# Altium footprint library sample.PcbLib: 13 footprints
Each footprint in its own frame and in the unit in brackets; x right, y up, seen from the top. Pads: shape width x height; smd on the part's side, far side on the other; paste and mask are expansions set on the pad; w line width, h text height; cw(c..) or ccw(c..) is an arc to the next point about the centre after c.
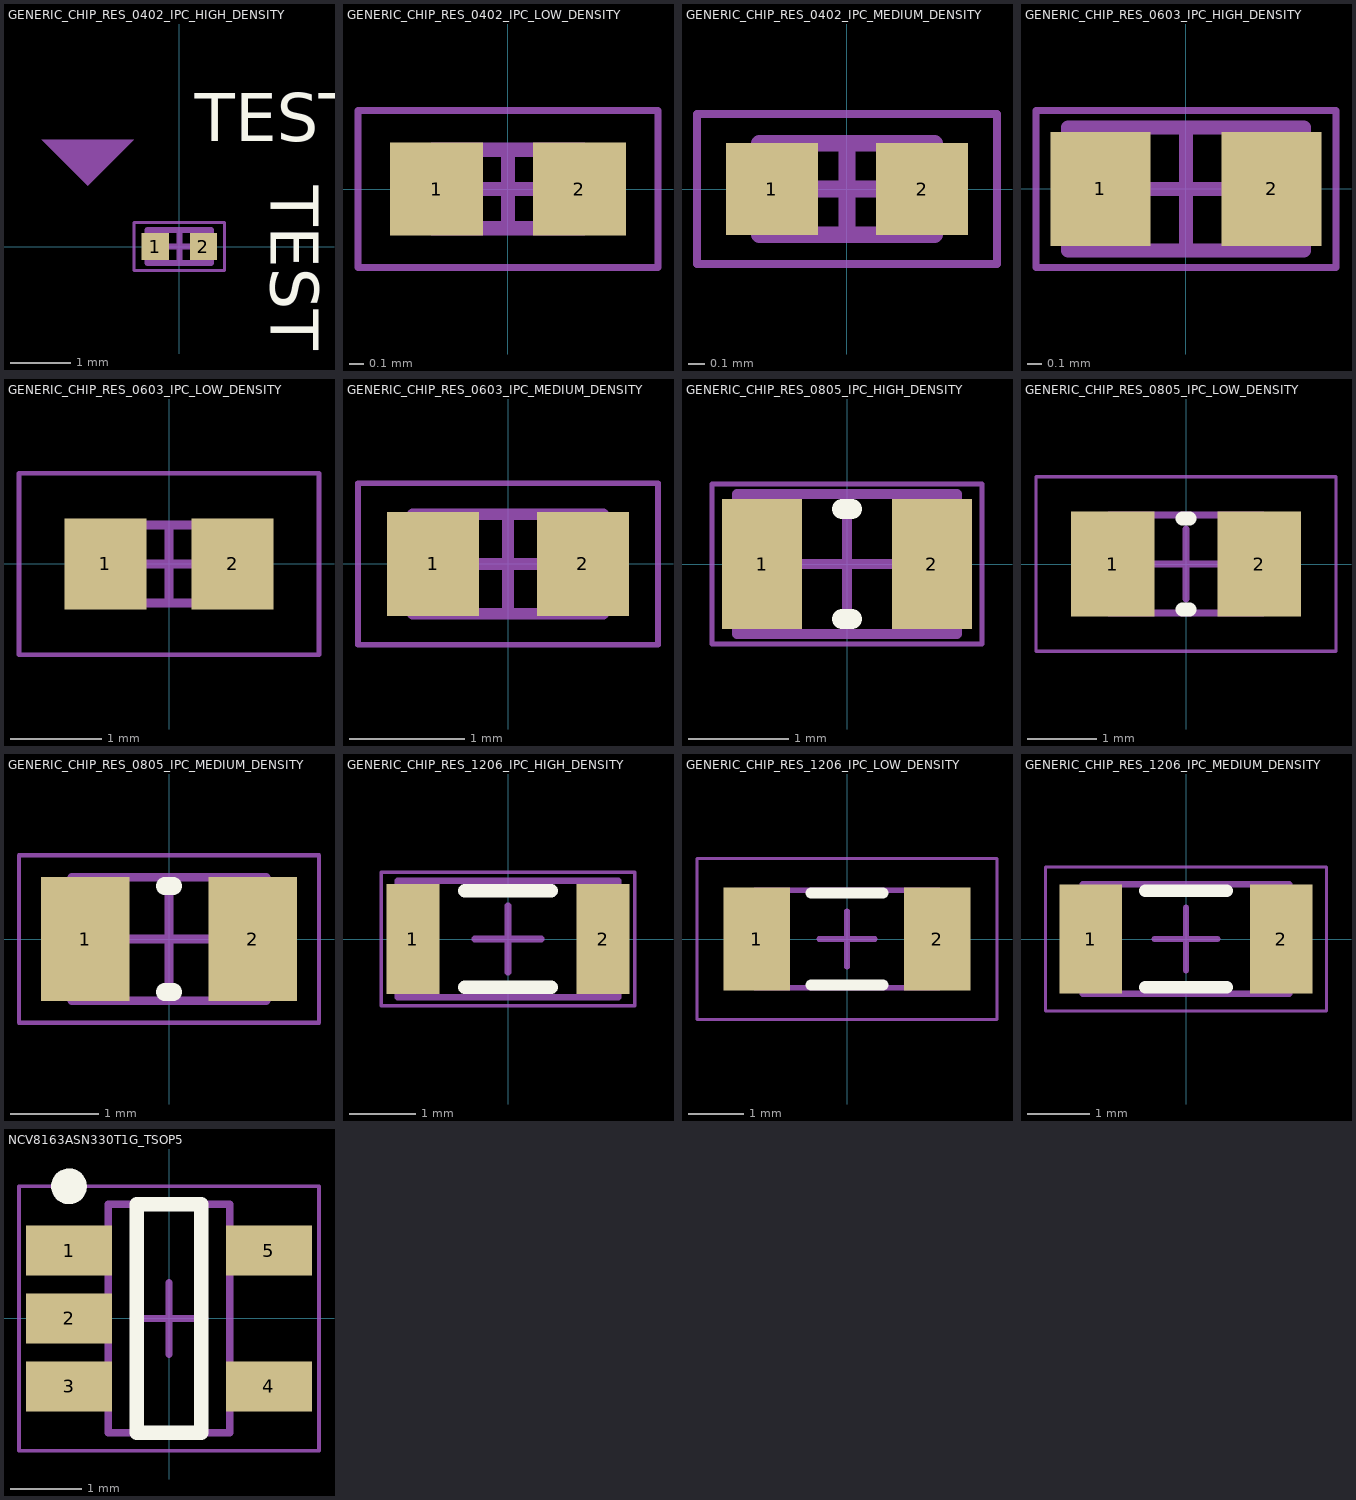
[diagram p0: the footprints below, top view; thin cyan lines are the x and y axes]

## GENERIC_CHIP_RES_0402_IPC_HIGH_DENSITY [mm] "Generic Chip Resistor, 0402, 1.00x0.50mm, IPC High Density"
height 0.4
pads (2):
  rect 0.45x0.45 smd: 1(-0.4,0) 2(0.4,0)
Top Overlay:
  text "TEST" at 0.254,1.754 h0.8
  text "TEST" at 1.524,1.016 h0.8
Bottom Overlay:
  text "String" at -10.253,0.818 h1.52
Top Paste:
  rectangle: -2.667,-0.635 -1.778,0.508
Top Assembly:
  region: -2.286,1.778 -0.762,1.778 -1.524,1.016
  lines w0.1: -0.525,-0.275 0.525,-0.275 0.525,0.275 -0.525,0.275 -0.525,-0.275
Top Courtyard:
  lines w0.05: -0.75,-0.4 0.75,-0.4 0.75,0.4 -0.75,0.4 -0.75,-0.4
  lines w0.1: -0.275,0 0.275,0 ; 0,-0.275 0,0.275
3D body "RESC1005X04L.step": height 0.4, standoff 0, extent -0.525,-0.275 0.525,0.275

## GENERIC_CHIP_RES_0402_IPC_LOW_DENSITY [mm] "Generic Chip Resistor, 0402, 1.00x0.50mm, IPC Low Density"
height 0.4
pads (2):
  rect 0.65x0.65 smd: 1(-0.5,0) 2(0.5,0)
Top Assembly:
  lines w0.1: -0.525,-0.275 0.525,-0.275 0.525,0.275 -0.525,0.275 -0.525,-0.275
Top Courtyard:
  lines w0.05: -1.05,-0.55 1.05,-0.55 1.05,0.55 -1.05,0.55 -1.05,-0.55
  lines w0.1: -0.275,0 0.275,0 ; 0,-0.275 0,0.275
3D body "RESC1005X04M.step": height 0.4, standoff 0, extent -0.525,-0.275 0.525,0.275

## GENERIC_CHIP_RES_0402_IPC_MEDIUM_DENSITY [mm] "Generic Chip Resistor, 0402, 1.00x0.50mm, IPC Medium Density"
height 0.4
pads (2):
  rect 0.55x0.55 smd: 1(-0.45,0) 2(0.45,0)
Top Assembly:
  lines w0.1: -0.525,-0.275 -0.525,0.275 0.525,0.275 0.525,-0.275 -0.525,-0.275
Top Courtyard:
  lines w0.05: -0.9,-0.45 -0.9,0.45 0.9,0.45 0.9,-0.45 -0.9,-0.45
  lines w0.1: -0.275,0 0.275,0 ; 0,-0.275 0,0.275
3D body "RESC1005X04N.step": height 0.4, standoff 0, extent -0.525,-0.275 0.525,0.275

## GENERIC_CHIP_RES_0603_IPC_HIGH_DENSITY [mm] "Generic Chip Resistor, 0603, 1.60x0.80mm, IPC High Density"
height 0.5
pads (2):
  rect 0.7x0.8 smd: 1(-0.6,0) 2(0.6,0)
Top Assembly:
  lines w0.1: -0.825,-0.43 0.825,-0.43 0.825,0.43 -0.825,0.43 -0.825,-0.43
Top Courtyard:
  lines w0.05: -1.05,-0.55 1.05,-0.55 1.05,0.55 -1.05,0.55 -1.05,-0.55
  lines w0.1: -0.43,0 0.43,0 ; 0,-0.43 0,0.43
3D body "RESC1608X05L.step": height 0.5, standoff 0, extent -0.825,-0.43 0.825,0.43

## GENERIC_CHIP_RES_0603_IPC_LOW_DENSITY [mm] "Generic Chip Resistor, 0603, 1.60x0.80mm, IPC Low Density"
height 0.5
pads (2):
  rect 0.9x1 smd: 1(-0.7,0) 2(0.7,0)
Top Assembly:
  lines w0.1: -0.825,-0.43 0.825,-0.43 0.825,0.43 -0.825,0.43 -0.825,-0.43
Top Courtyard:
  lines w0.05: -1.65,-1 1.65,-1 1.65,1 -1.65,1 -1.65,-1
  lines w0.1: -0.43,0 0.43,0 ; 0,-0.43 0,0.43
3D body "RESC1608X05M.step": height 0.5, standoff 0, extent -0.825,-0.43 0.825,0.43

## GENERIC_CHIP_RES_0603_IPC_MEDIUM_DENSITY [mm] "Generic Chip Resistor, 0603, 1.60x0.80mm, IPC Medium Density"
height 0.5
pads (2):
  rect 0.8x0.9 smd: 1(-0.65,0) 2(0.65,0)
Top Assembly:
  lines w0.1: -0.825,-0.43 -0.825,0.43 0.825,0.43 0.825,-0.43 -0.825,-0.43
Top Courtyard:
  lines w0.05: -1.3,-0.7 -1.3,0.7 1.3,0.7 1.3,-0.7 -1.3,-0.7
  lines w0.1: -0.43,0 0.43,0 ; 0,-0.43 0,0.43
3D body "RESC1608X05N.step": height 0.5, standoff 0, extent -0.825,-0.43 0.825,0.43

## GENERIC_CHIP_RES_0805_IPC_HIGH_DENSITY [mm] "Generic Chip Resistor, 0805, 2.00x1.25mm, IPC High Density"
height 0.5
pads (2):
  rect 0.8x1.3 smd: 1(-0.85,0) 2(0.85,0)
Top Overlay:
  lines w0.2: -0.05,-0.55 0.05,-0.55 ; -0.05,0.55 0.05,0.55
Top Assembly:
  lines w0.1: -1.1,-0.7 1.1,-0.7 1.1,0.7 -1.1,0.7 -1.1,-0.7
Top Courtyard:
  lines w0.05: -1.35,-0.8 1.35,-0.8 1.35,0.8 -1.35,0.8 -1.35,-0.8
  lines w0.1: -0.5,0 0.5,0 ; 0,-0.5 0,0.5
3D body "RESC2012X05L.step": height 0.5, standoff 0, extent -1.1,-0.7 1.1,0.7

## GENERIC_CHIP_RES_0805_IPC_LOW_DENSITY [mm] "Generic Chip Resistor, 0805, 2.00x1.25mm, IPC Low Density"
height 0.5
pads (2):
  rect 1.2x1.5 smd: 1(-1.05,0) 2(1.05,0)
Top Overlay:
  lines w0.2: -0.05,-0.65 0.05,-0.65 ; -0.05,0.65 0.05,0.65
Top Assembly:
  lines w0.1: -1.1,-0.7 -1.1,0.7 1.1,0.7 1.1,-0.7 -1.1,-0.7
Top Courtyard:
  lines w0.05: -2.15,-1.25 -2.15,1.25 2.15,1.25 2.15,-1.25 -2.15,-1.25
  lines w0.1: -0.5,0 0.5,0 ; 0,-0.5 0,0.5
3D body "RESC2012X05M.step": height 0.5, standoff 0, extent -1.1,-0.7 1.1,0.7

## GENERIC_CHIP_RES_0805_IPC_MEDIUM_DENSITY [mm] "Generic Chip Resistor, 0805, 2.00x1.25mm, IPC Medium Density"
height 0.5
pads (2):
  rect 1x1.4 smd: 1(-0.95,0) 2(0.95,0)
Top Overlay:
  lines w0.2: -0.05,-0.6 0.05,-0.6 ; -0.05,0.6 0.05,0.6
Top Assembly:
  lines w0.1: -1.1,-0.7 -1.1,0.7 1.1,0.7 1.1,-0.7 -1.1,-0.7
Top Courtyard:
  lines w0.05: -1.7,-0.95 -1.7,0.95 1.7,0.95 1.7,-0.95 -1.7,-0.95
  lines w0.1: -0.5,0 0.5,0 ; 0,-0.5 0,0.5
3D body "RESC2012X05N.step": height 0.5, standoff 0, extent -1.1,-0.7 1.1,0.7

## GENERIC_CHIP_RES_1206_IPC_HIGH_DENSITY [mm] "Generic Chip Resistor, 1206, 3.20x1.60mm, IPC High Density"
height 0.6
pads (2):
  rect 0.8x1.65 smd: 1(-1.425,0) 2(1.425,0)
Top Overlay:
  lines w0.2: -0.65,-0.725 0.65,-0.725 ; -0.65,0.725 0.65,0.725
Top Assembly:
  lines w0.1: -1.65,-0.875 1.65,-0.875 1.65,0.875 -1.65,0.875 -1.65,-0.875
Top Courtyard:
  lines w0.05: -1.9,-1 1.9,-1 1.9,1 -1.9,1 -1.9,-1
  lines w0.1: -0.5,0 0.5,0 ; 0,-0.5 0,0.5
3D body "RESC3216X06L.step": height 0.6, standoff 0, extent -1.65,-0.875 1.65,0.875

## GENERIC_CHIP_RES_1206_IPC_LOW_DENSITY [mm] "Generic Chip Resistor, 1206, 3.20x1.60mm, IPC Low Density"
height 0.6
pads (2):
  rect 1.2x1.85 smd: 1(-1.625,0) 2(1.625,0)
Top Overlay:
  lines w0.2: -0.65,-0.825 0.65,-0.825 ; -0.65,0.825 0.65,0.825
Top Assembly:
  lines w0.1: -1.65,-0.875 -1.65,0.875 1.65,0.875 1.65,-0.875 -1.65,-0.875
Top Courtyard:
  lines w0.05: -2.7,-1.45 -2.7,1.45 2.7,1.45 2.7,-1.45 -2.7,-1.45
  lines w0.1: -0.5,0 0.5,0 ; 0,-0.5 0,0.5
3D body "RESC3216X06M.step": height 0.6, standoff 0, extent -1.65,-0.875 1.65,0.875

## GENERIC_CHIP_RES_1206_IPC_MEDIUM_DENSITY [mm] "Generic Chip Resistor, 1206, 3.20x1.60mm, IPC Medium Density"
height 0.6
pads (2):
  rect 1x1.75 smd: 1(-1.525,0) 2(1.525,0)
Top Overlay:
  lines w0.2: -0.65,-0.775 0.65,-0.775 ; -0.65,0.775 0.65,0.775
Top Assembly:
  lines w0.1: -1.65,-0.875 -1.65,0.875 1.65,0.875 1.65,-0.875 -1.65,-0.875
Top Courtyard:
  lines w0.05: -2.25,-1.15 -2.25,1.15 2.25,1.15 2.25,-1.15 -2.25,-1.15
  lines w0.1: -0.5,0 0.5,0 ; 0,-0.5 0,0.5
3D body "RESC3216X06N.step": height 0.6, standoff 0, extent -1.65,-0.875 1.65,0.875

## NCV8163ASN330T1G_TSOP5 [mm] "TSOP, 5-Leads, Body 3,00x1,50mm, Pitch 0,95mm, IPC Medium Density"
height 1.1
pads (5):
  rect 1.2x0.7 smd: 1(-1.4,0.95) 2(-1.4,0) 3(-1.4,-0.95) 4(1.4,-0.95) 5(1.4,0.95)
Top Overlay:
  circle w0.25: c-1.4,1.85 r0.125
  lines w0.2: -0.45,-1.6 0.45,-1.6 0.45,1.6 -0.45,1.6 -0.45,-1.6
Mechanical 13:
  lines w0.1: -0.85,-1.6 0.85,-1.6 0.85,1.6 -0.85,1.6 -0.85,-1.6
Mechanical 15:
  lines w0.05: -2.1,-1.85 2.1,-1.85 2.1,1.85 -2.1,1.85 -2.1,-1.85
  lines w0.1: -0.5,0 0.5,0 ; 0,-0.5 0,0.5
3D body "TSOP95P280X110-6N.step": height 1.1, standoff 0, extent -1.375,-1.6 1.375,1.6